# Altium footprint library RES-3W.PcbLib: 1 footprints
Each footprint in its own frame and in the unit in brackets; x right, y up, seen from the top. Pads: shape width x height; smd on the part's side, far side on the other; paste and mask are expansions set on the pad; w line width, h text height; cw(c..) or ccw(c..) is an arc to the next point about the centre after c.
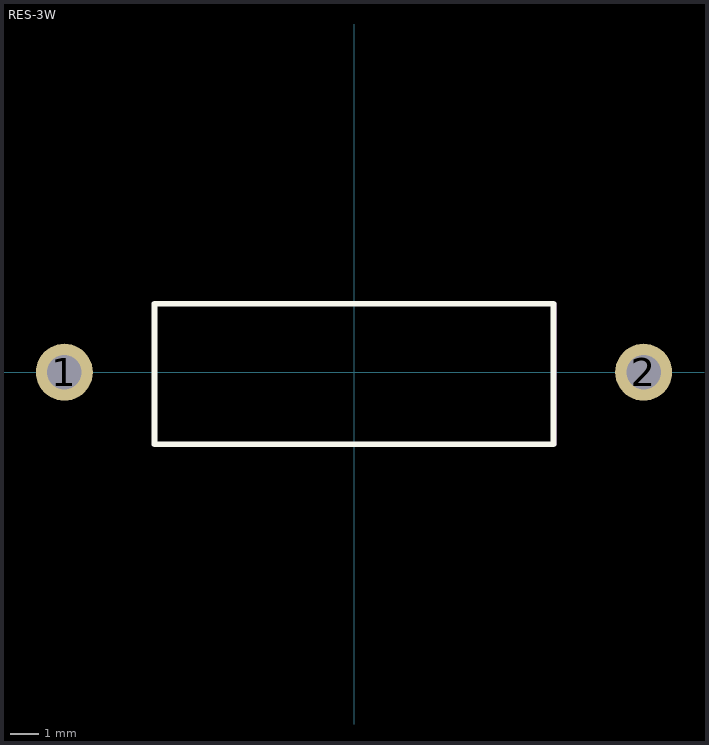
[diagram p0: the footprint, top view; thin cyan lines are the x and y axes]

## RES-3W [mm]
height 0.55
pads (2):
  round 2 hole 1.2: 1(-10.16,0) 2(10.16,0)
Top Overlay:
  lines w0.2: -7,-2.525 -7,2.4 7,2.4 7,-2.525 -7,-2.525
Top Assembly:
  lines w0.1: -7.025,-2.525 -7.025,2.4 7.05,2.4 7.05,-2.525 -7.025,-2.525
  text "'.Designator'" at -0.975,-0.35 h0.7
3D body "User Library-FMP300-Jx-73-10R.STEP": height 6.5, standoff -2.58, extent -10.56,-2.5 10.56,2.5